# Altium integrated library Relay.IntLib: 2 symbols
Pins are listed as number, name and electrical type; pins without a type are passive.

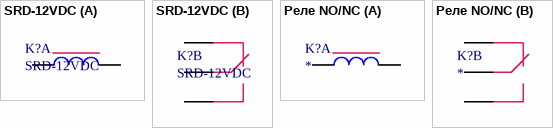
[diagram p0: symbols SRD-12VDC to Реле NO/NC]

## SRD-12VDC
designator K?
footprint SRD_xVDC
part A pins: 1, 2
part B pins: 3, 4, 5

## Реле NO/NC
designator K?
part A pins: 1, 2
part B pins: 3, 4, 5